# Altium footprint library PCBLibrary.PcbLib: 40 footprints (part 1 of 3)
Each footprint in its own frame and in the unit in brackets; x right, y up, seen from the top. Pads: shape width x height; smd on the part's side, far side on the other; paste and mask are expansions set on the pad; w line width, h text height; cw(c..) or ccw(c..) is an arc to the next point about the centre after c.
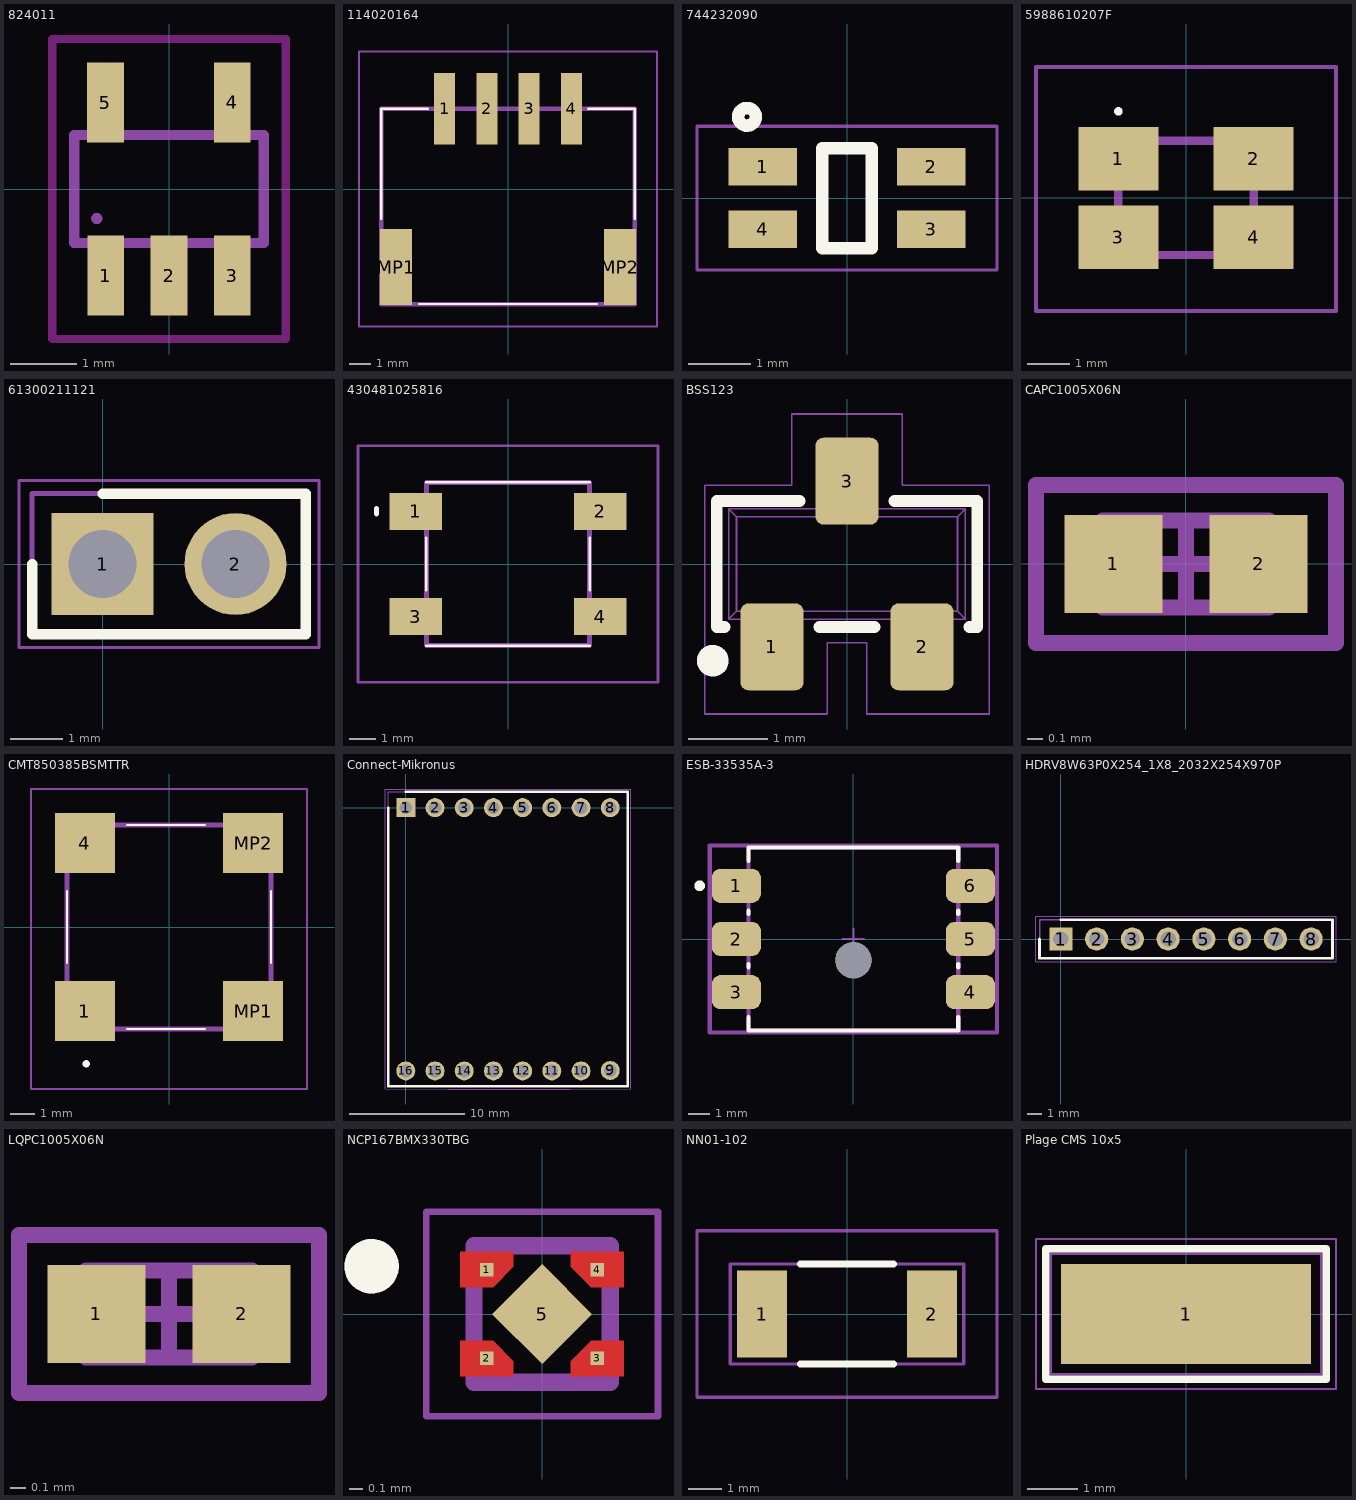
[diagram p0: the footprints below, top view; thin cyan lines are the x and y axes]

## 824011 [mil] "Suppresseurs ESD / diodes TVS WE-TVS High Speed 5uA 5VDC 2+1"
pads (5):
  rect 21.65x47.24 smd: 1(-37.4,-51.18) 2(0,-51.18) 3(37.4,-51.18) 4(37.4,51.18) 5(-37.5,51)
Top Layer keep-out:
  lines w5: -68.9,-88.58 68.9,-88.58 68.9,88.58 -68.9,88.58 -68.9,-88.58
Bottom Designator:
  region: -47.24,-59.06 -47.24,-33.46 -27.56,-33.46 -27.56,-59.06
  region: -9.84,-59.06 -9.84,-33.46 9.84,-33.46 9.84,-59.06
  region: 27.56,-59.06 27.56,-33.46 47.24,-33.46 47.24,-59.06
  region: 27.56,33.46 27.56,59.06 47.24,59.06 47.24,33.46
  region: -47.24,33.46 -47.24,59.06 -27.56,59.06 -27.56,33.46
  lines w6: -55.98,-31.89 55.98,-31.89 ; -55.98,31.89 55.98,31.89
Mechanical 7:
  circle w5: c-42.64,-17.44 r0.79
  lines w6: -52.28,-31.89 -55.98,-31.89 -55.98,31.89 -52.28,31.89 ; -20.55,-31.89 -16.85,-31.89 ; -20.55,31.89 20.55,31.89 ; 16.85,-31.89 20.55,-31.89 ; 52.28,-31.89 55.98,-31.89 55.98,31.89 52.28,31.89
3D body "824011.stp": height 57.09, standoff 0, extent -57.09,-55.12 57.09,55.12

## 114020164 [mm]
pads (6):
  rect 1x3.4 smd: 1(-3,3.8) 2(-1,3.8) 3(1,3.8) 4(3,3.8)
  rect 1.5x3.6 smd: MP1(-5.3,-3.7) MP2(5.3,-3.7)
Top Overlay:
  lines w0.1: -6,-1.425 -6,3.8 -3.8,3.8 ; -4.2,-5.45 4.2,-5.45 ; 3.8,3.8 6,3.8 6,-1.425
Mechanical 15:
  lines w0.2: -6,-5.45 6,-5.45 6,3.8 -6,3.8 -6,-5.45
Top 3D Body:
  lines w0.1: -7.05,-6.5 7.05,-6.5 7.05,6.5 -7.05,6.5 -7.05,-6.5
3D body "114020164.stp": height 5.2, standoff -0.04, extent -6,-5.585 6,4.6

## 744232090 [mm]
pads (4):
  rect 1.1x0.6 smd: 1(-1.35,0.5) 2(1.35,0.5) 3(1.35,-0.5) 4(-1.35,-0.5)
Top Overlay:
  circle w0.2: c-1.6,1.3 r0.141
  lines w0.2: -0.4,-0.8 0.4,-0.8 0.4,0.8 -0.4,0.8 -0.4,-0.8
Mechanical 15:
  lines w0.05: -2.4,-1.15 -2.4,1.15 2.4,1.15 2.4,-1.15 -2.4,-1.15
3D body "744232090.stp": height 1.8, standoff 0, extent -1.6,-0.8 1.6,0.8

## 5988610207F [mm]
pads (4):
  rect 1.9x1.5 smd: 1(-1.6,0.925) 2(1.6,0.925) 3(-1.6,-0.925) 4(1.6,-0.925)
Top Overlay:
  lines w0.1: -1.6,2 cw(c-1.6,2.05) -1.6,2.1 cw(c-1.6,2.05) -1.6,2
Mechanical 15:
  lines w0.2: -1.6,-1.35 -1.6,1.35 1.6,1.35 1.6,-1.35 -1.6,-1.35
Top 3D Body:
  lines w0.1: -3.55,-2.675 -3.55,3.1 3.55,3.1 3.55,-2.675 -3.55,-2.675
3D body "598-8610-207F.stp": height 0.9, standoff 0, extent -1.6,-1.35 1.6,1.35

## 61300211121 [mm] "Embases et logements de câbles WR-PHD 2.54mm 2Pin T HT Header"
pads (2):
  rect 1.95x1.95 / inner round 1.95 / far side rect 1.95x1.95 hole 1.3: 1(0,0)
  round 1.95 hole 1.3: 2(2.54,0)
Top Overlay:
  lines w0.2: -1.345,0 -1.345,-1.345 3.885,-1.345 3.885,1.345 0,1.345
Mechanical 15:
  lines w0.1: -1.345,-1.345 3.885,-1.345 3.885,1.345 -1.345,1.345 -1.345,-1.345
Top 3D Body:
  lines w0.05: -1.595,-1.595 4.135,-1.595 4.135,1.595 -1.595,1.595 -1.595,-1.595

## 430481025816 [mm]
pads (4):
  rect 2x1.4 smd: 1(-3.5,2) 2(3.5,2) 3(-3.5,-2) 4(3.5,-2)
Top Overlay:
  lines w0.1: -3.1,-3.1 3.1,-3.1 ; -3.1,-1 -3.1,1 ; -3.1,3.1 3.1,3.1 ; 3.1,-1 3.1,1
  lines w0.2: -5,1.9 -5,2.1 -5,1.9
Mechanical 15:
  lines w0.2: -3.1,-3.1 3.1,-3.1 3.1,3.1 -3.1,3.1 -3.1,-3.1
Top 3D Body:
  lines w0.1: -5.7,-4.5 5.7,-4.5 5.7,4.5 -5.7,4.5 -5.7,-4.5
3D body "430481025816.stp": height 2.1, standoff 0, extent -4.36,-3.1 4.36,3.1

## BSS123 [mm]
pads (3):
  rrect25% 0.8x1.1 smd paste+0 mask+0.075: 1(-0.95,-1.05) 2(0.95,-1.05) 3(0,1.05)
Top Overlay:
  circle w0.25: c-1.7,-1.225 r0.075
  lines w0.15: -1.55,-0.8 -1.65,-0.8 -1.65,0.8 -0.6,0.8 ; -0.35,-0.8 0.35,-0.8 ; 0.6,0.8 1.65,0.8 1.65,-0.8 1.55,-0.8
Mechanical 9:
  text "SOT-23" at -1.416,-0.25 h0.5
Mechanical 15:
  lines w0.02: -1.8,-1.9 -0.25,-1.9 -0.25,-1 0.25,-1 0.25,-1.9 1.8,-1.9 1.8,1 0.7,1 0.7,1.9 -0.7,1.9 -0.7,1 -1.8,1 -1.8,-1.9
Mechanical 17:
  lines w0.02: -1.15,-0.9 -0.75,-0.9 ; -1.15,-0.7 -1.15,-1.3 -0.75,-1.3 -0.75,-0.7 ; -0.2,0.7 -0.2,1.3 0.2,1.3 0.2,0.7 ; -0.2,0.9 0.2,0.9 ; 0.75,-0.9 1.15,-0.9 ; 0.75,-0.7 0.75,-1.3 1.15,-1.3 1.15,-0.7 ; -1.5,-0.7 -1.4,-0.6 ; -1.5,-0.7 1.5,-0.7 ; -1.5,-0.7 -1.5,0.7 ; -1.5,0.7 -1.4,0.6 ; -1.5,0.7 1.5,0.7 ; -1.4,-0.6 1.4,-0.6 ; -1.4,-0.6 -1.4,0.6 ; -1.4,0.6 1.4,0.6 ; 1.4,-0.6 1.5,-0.7 ; 1.4,-0.6 1.4,0.6 ; 1.4,0.6 1.4,0.6 ; 1.4,0.6 1.5,0.7 ; 1.5,-0.7 1.5,0.7
3D body: height 1.1, standoff 1, extent -1.4,-0.6 1.4,0.6
3D body: height 0.7, standoff 0.55, extent -0.2,0.7 0.2,0.85
3D body: height 0.15, standoff 0, extent -0.2,1 0.2,1.3
3D body: height 0.7, standoff 0, extent -0.2,0.85 0.2,1
3D body: height 0.7, standoff 0.55, extent 0.75,-0.85 1.15,-0.7
3D body: height 0.15, standoff 0, extent 0.75,-1.3 1.15,-1
3D body: height 0.7, standoff 0, extent 0.75,-1 1.15,-0.85
3D body: height 0.7, standoff 0, extent -1.15,-1 -0.75,-0.85
3D body: height 0.15, standoff 0, extent -1.15,-1.3 -0.75,-1
3D body: height 0.7, standoff 0.55, extent -1.15,-0.85 -0.75,-0.7
3D body: height 1, standoff 0.1, extent -1.5,-0.7 1.5,0.7

## CAPC1005X06N [mm] "Chip Capacitor, 2-Leads, Body 1,00x0,50mm, IPC Medium Density"
height 0.55
pads (2):
  rect 0.62x0.62 smd: 1(-0.46,0) 2(0.46,0)
Top Assembly:
  lines w0.1: -0.525,-0.275 -0.525,0.275 0.525,0.275 0.525,-0.275 -0.525,-0.275
Top Courtyard:
  lines w0.1: -0.275,0 0.275,0 ; 0,-0.275 0,0.275 ; -0.95,-0.5 -0.95,0.5 0.95,0.5 0.95,-0.5 -0.95,-0.5
Top Designator:
  text ".Designator" at -1.25,-0.083 h0.25
3D body "CAPC1005X06N.step": height 0.55, standoff 0, extent -0.525,-0.275 0.525,0.275

## CMT850385BSMTTR [mm]
pads (4):
  rect 2.5x2.5 smd: 1(-3.5,-3.5) 4(-3.5,3.5) MP1(3.5,-3.5) MP2(3.5,3.5)
Top Overlay:
  lines w0.1: -4.25,-1.5 -4.25,1.5 ; -1.75,-4.25 1.5,-4.25 ; -1.75,4.25 1.5,4.25 ; 4.25,-1.5 4.25,1.5
  lines w0.2: -3.5,-5.7 ccw(c-3.45,-5.7) -3.4,-5.7 ; -3.5,-5.7 cw(c-3.45,-5.7) -3.4,-5.7 ; -3.5,-5.7 ccw(c-3.45,-5.7) -3.4,-5.7
Mechanical 15:
  lines w0.2: -4.25,-4.25 -4.25,4.25 4.25,4.25 4.25,-4.25 -4.25,-4.25
Top 3D Body:
  lines w0.1: -5.75,-6.75 -5.75,5.75 5.75,5.75 5.75,-6.75 -5.75,-6.75
3D body "CMT-8503-85B-SMT-TR.stp": height 3, standoff -0.04, extent -4.31,-4.35 4.31,4.15

## Connect-Mikronus [mm]
pads (16):
  rect 1.65x1.65 / inner round 1.65 / far side rect 1.65x1.65 hole 1.1: 1(0,0)
  round 1.65 hole 1.1: 2(2.54,0) 3(5.08,0) 4(7.62,0) 5(10.16,0) 6(12.7,0) 7(15.24,0) 8(17.78,0) 9(17.78,-22.86) 10(15.24,-22.9) 11(12.7,-22.9) 12(10.16,-22.9) 13(7.62,-22.9) 14(5.08,-22.9) 15(2.54,-22.9) 16(0,-22.9)
Top Overlay:
  lines w0.2: -1.52,0 -1.52,-24.22 3.685,-24.22 14.095,-24.22 19.3,-24.22 19.3,1.37 0,1.37
Mechanical 15:
  lines w0.1: -1.525,-24.22 -1.525,1.37 19.3,1.37 19.3,-24.2 19.28,-24.22 14.095,-24.22 3.685,-24.22 -1.525,-24.22
Top 3D Body:
  lines w0.05: -1.775,-24.47 -1.775,1.62 19.55,1.62 19.55,-24.45 14.295,-24.47 3.635,-24.47 -1.775,-24.47
3D body "2_54_x_8_pitch_connector_.STEP": height 8.5, standoff -3, extent -1.825,-1.15 19.775,1.25
3D body "2_54_x_8_pitch_connector_.STEP": height 8.5, standoff -3, extent -1.95,-24.1 19.65,-21.7

## ESB-33535A-3 [mm]
pads (7):
  rrect50% 2.3x1.6 smd paste+0 mask+0: 1(-5.5,2.5) 2(-5.5,0) 3(-5.5,-2.5) 4(5.5,-2.5) 5(5.5,0) 6(5.5,2.5)
  round 1.7 hole 1.7 unplated paste-2539.97 mask+0: ""(0,-1)
Top Overlay:
  circle w0.25: c-7.225,2.5 r0.125
  lines w0.2: -4.925,-3.675 -4.925,-4.3 4.925,-4.3 4.925,-3.675 ; -4.925,-1.325 -4.925,-1.175 ; -4.925,1.175 -4.925,1.325 ; -4.925,3.675 -4.925,4.3 4.925,4.3 4.925,3.675 ; 4.925,-1.325 4.925,-1.175 ; 4.925,1.175 4.925,1.325
Top Component Center:
  lines w0.1: -0.5,0 0.5,0 ; 0,-0.5 0,0.5
Top 3D Body:
  lines w0.2: -4.925,-4.3 -4.925,4.3 4.925,4.3 4.925,-4.3 -4.925,-4.3
Top Assembly:
  lines w0.2: -6.75,-4.4 -6.75,4.4 6.75,4.4 6.75,-4.4 -6.75,-4.4
  text ".Designator" at 0,0.188 h1
Top Courtyard:
  lines w0.2: -6.75,-4.4 -6.75,4.4 6.75,4.4 6.75,-4.4 -6.75,-4.4
3D body "Switch_Panasonic_Electronic_Components_ESB-33535A_eec.STEP": height 0.25, standoff 0, extent -6.75,-4.4 6.75,4.4

## HDRV8W63P0X254_1X8_2032X254X970P [mm]
pads (8):
  rect 1.65x1.65 / inner round 1.65 / far side rect 1.65x1.65 hole 1.1: 1(0,0)
  round 1.65 hole 1.1: 2(2.54,0) 3(5.08,0) 4(7.62,0) 5(10.16,0) 6(12.7,0) 7(15.24,0) 8(17.78,0)
Top Overlay:
  lines w0.2: -1.52,0 -1.52,-1.37 19.3,-1.37 19.3,1.37 0,1.37
Mechanical 15:
  lines w0.1: -1.52,-1.37 19.3,-1.37 19.3,1.37 -1.52,1.37 -1.52,-1.37
Top 3D Body:
  lines w0.05: -1.77,-1.62 19.55,-1.62 19.55,1.62 -1.77,1.62 -1.77,-1.62

## LQPC1005X06N [mm]
height 0.55
pads (2):
  rect 0.62x0.62 smd: 1(-3.254,-2.794) 2(-2.334,-2.794)
Top Assembly:
  lines w0.1: -3.319,-3.069 -3.319,-2.519 -2.269,-2.519 -2.269,-3.069 -3.319,-3.069
Top Courtyard:
  lines w0.1: -3.069,-2.794 -2.519,-2.794 ; -2.794,-3.069 -2.794,-2.519 ; -3.744,-3.294 -3.744,-2.294 -1.844,-2.294 -1.844,-3.294 -3.744,-3.294
Top Designator:
  text ".Designator" at -4.044,-2.877 h0.25
3D body "CAPC1005X06N.step": height 0.55, standoff 0, extent -3.319,-3.069 -2.269,-2.519

## NCP167BMX330TBG [mm] "Régulateurs de tension LDO LDO 700 MA ULTRA-LOW NOISE 3.3V"
pads (5):
  rect 0.1x0.1 smd paste-1 mask+0: 1(-0.405,0.325) 2(-0.405,-0.325) 3(0.405,-0.325) 4(0.405,0.325)
  rect 0.52x0.52 smd rot 45 mask+0.05: 5(0,0)
Top Layer:
  region: -0.21,0.345 -0.36,0.195 -0.6,0.195 -0.6,0.455 -0.21,0.455
  region: -0.21,-0.345 -0.21,-0.455 -0.6,-0.455 -0.6,-0.195 -0.36,-0.195
  region: 0.6,-0.455 0.21,-0.455 0.21,-0.345 0.36,-0.195 0.6,-0.195
  region: 0.6,0.195 0.36,0.195 0.21,0.345 0.21,0.455 0.6,0.455
Top Overlay:
  circle w0.2: c-1.25,0.35 r0.1
Top Paste:
  region: -0.21,0.345 -0.36,0.195 -0.6,0.195 -0.6,0.455 -0.21,0.455
  region: -0.21,-0.345 -0.21,-0.455 -0.6,-0.455 -0.6,-0.195 -0.36,-0.195
  region: 0.6,-0.455 0.21,-0.455 0.21,-0.345 0.36,-0.195 0.6,-0.195
  region: 0.6,0.195 0.36,0.195 0.21,0.345 0.21,0.455 0.6,0.455
Top Solder:
  region: -0.16,0.32 -0.335,0.145 -0.65,0.145 -0.65,0.505 -0.16,0.505
  region: -0.16,-0.32 -0.16,-0.505 -0.65,-0.505 -0.65,-0.145 -0.335,-0.145
  region: 0.65,-0.505 0.16,-0.505 0.16,-0.32 0.335,-0.145 0.65,-0.145
  region: 0.65,0.145 0.335,0.145 0.16,0.32 0.16,0.505 0.65,0.505
Mechanical 13:
  circle w0.2: c-1.25,0.35 r0.1
  lines w0.127: -0.5,-0.5 -0.5,0.5 0.5,0.5 0.5,-0.5 -0.5,-0.5
Mechanical 15:
  lines w0.05: -0.85,-0.75 0.85,-0.75 0.85,0.75 -0.85,0.75 -0.85,-0.75
3D body "NCP167BMX330TBG.stp": height 0.38, standoff 0, extent -0.5,-0.5 0.5,0.5

## NN01-102 [mm] "Antennes Compact Reach Xtend 2.4 GHz"
pads (2):
  rect 1.5x2.6 smd: 1(-2.55,0) 2(2.55,0)
Top Overlay:
  lines w0.2: -1.4,-1.5 1.4,-1.5 ; -1.4,1.5 1.4,1.5
Mechanical 15:
  lines w0.1: -3.5,-1.5 -3.5,1.5 3.5,1.5 3.5,-1.5 -3.5,-1.5
Top 3D Body:
  lines w0.1: -4.5,-2.5 -4.5,2.5 4.5,2.5 4.5,-2.5 -4.5,-2.5
3D body "NN01-102.step": height 2.2, standoff 0, extent -3.6,-1.5 3.4,1.5

## Plage CMS 10x5 [mm] "Plage CMS 10x5"
pads (1):
  rect 5x2 smd paste-1 mask+0.15: 1(0,0)
Top Overlay:
  lines w0.15: -2.8,-1.3 -2.8,1.3 2.8,1.3 2.8,-1.3 -2.8,-1.3
Mechanical 15:
  lines w0.05: -3,-1.5 -3,1.5 3,1.5 3,-1.5 -3,-1.5
Mechanical 17:
  lines w0.05: -2.7,-1.2 -2.7,1.2 2.7,1.2 2.7,-1.2 -2.7,-1.2